# Altium footprint library Mechanical.PcbLib: 6 footprints
Each footprint in its own frame and in the unit in brackets; x right, y up, seen from the top. Pads: shape width x height; smd on the part's side, far side on the other; paste and mask are expansions set on the pad; w line width, h text height; cw(c..) or ccw(c..) is an arc to the next point about the centre after c.
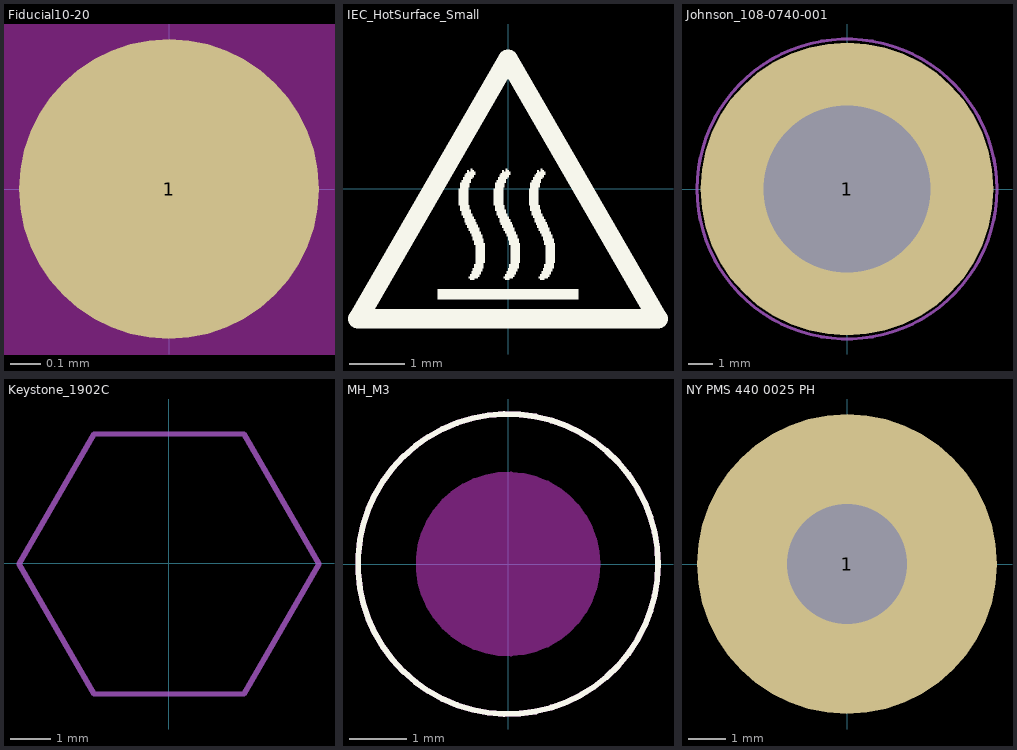
[diagram p0: the footprints below, top view; thin cyan lines are the x and y axes]

## Fiducial10-20 [mm]
pads (1):
  round 1 smd mask+0.5: 1(0,0)
Top Layer keep-out:
  circle w1.178: c0,0 r0.5

## IEC_HotSurface_Small [mm]
height 1.1
Top Overlay:
  drawing of 10 lines, arcs and shapes, not listed

## Johnson_108-0740-001 [mm] "Banana Jack Uninsulated Standard Type"
height 2.4
pads (1):
  round 12 hole 6.858: 1(0,0)
Mechanical 5:
  circle w0.127: c0,0 r6.143
  text ".Designator" at -1.397,-0.762 h1.52
3D body "Johnson_108-0740-001.stp": height 2.39, standoff -13.49, extent -4.775,-5.425 4.745,5.568

## Keystone_1902C [mm] "Hex Standoff, 4-40 threaded, nylon"
height 12.7
Mechanical 6:
  lines w0.127: -3.69,-0.012 -1.843,-3.212 1.852,-3.212 3.7,-0.012 1.852,3.188 -1.843,3.188 -3.69,-0.012
  text ".Designator" at -1.524,0.508 h1.02
3D body "Keystone_1902C.stp": height 12.73, standoff 0.03, extent -3.682,-3.2 3.708,3.2

## MH_M3 [mm]
Top Layer keep-out:
  circle w0.1: c0,0 r2.6
Top Overlay:
  circle w0.1: c0,0 r2.6
Keep-Out Layer:
  board cut-out: -1.55,0 -1.55,-0.153 -1.49,-0.452 -1.374,-0.734 -1.204,-0.988 -0.988,-1.204 -0.734,-1.374 -0.452,-1.49 -0.153,-1.55 0,-1.55 0.153,-1.55 0.452,-1.49 0.734,-1.374 0.988,-1.204 1.204,-0.988 1.374,-0.734 1.49,-0.452 1.55,-0.153 1.55,0 1.55,0.153 1.49,0.452 1.374,0.734 1.204,0.988 0.988,1.204 0.734,1.374 0.452,1.49 0.153,1.55 0,1.55 -0.153,1.55 -0.452,1.49 -0.734,1.374 -0.988,1.204 -1.204,0.988 -1.374,0.734 -1.49,0.452 -1.55,0.153
Keep-Out Layer:
  circle w0.1: c0,0 r1.55

## NY PMS 440 0025 PH [mm] "4-40 nylon screw and mounting hole"
height 1.905
pads (1):
  round 8 hole 3.2 mask+0.05: 1(0,0)
Mechanical 5:
  circle w0.127: c0,0 r3.789
  text ".Designator" at -1.524,-0.508 h1.02
3D body "B_F_NY PMS 440 0025 PH.stp": height 2.69, standoff -8.74, extent -3.302,-3.3 3.296,3.3